# Altium footprint library trans.PcbLib: 1 footprints
Each footprint in its own frame and in the unit in brackets; x right, y up, seen from the top. Pads: shape width x height; smd on the part's side, far side on the other; paste and mask are expansions set on the pad; w line width, h text height; cw(c..) or ccw(c..) is an arc to the next point about the centre after c.
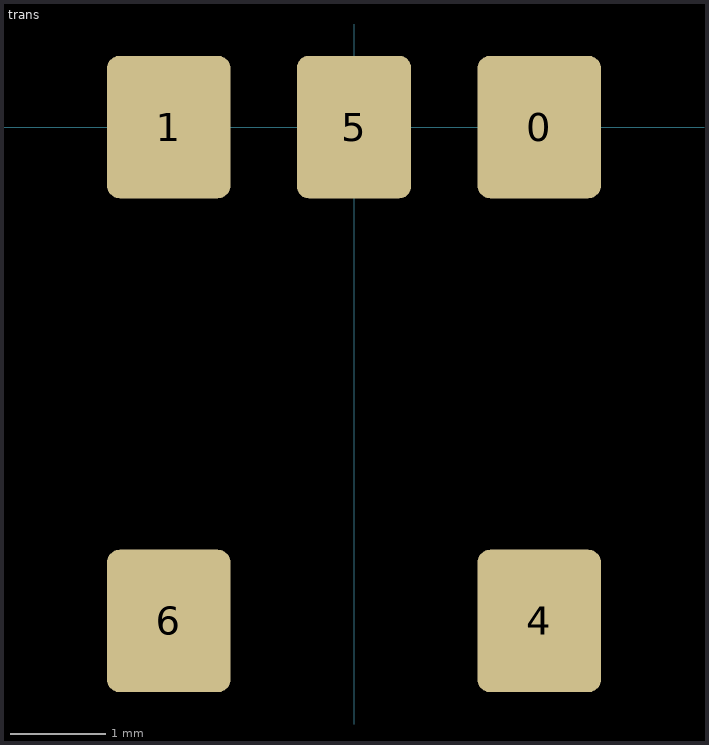
[diagram p0: the footprint, top view; thin cyan lines are the x and y axes]

## trans [mm]
pads (5):
  rrect20% 1.3x1.5 smd: 0(1.95,0) 1(-1.95,0) 4(1.95,-5.2) 6(-1.95,-5.2)
  rrect20% 1.2x1.5 smd: 5(0,0)